# EAGLE library part LPY510AL (library mrone)
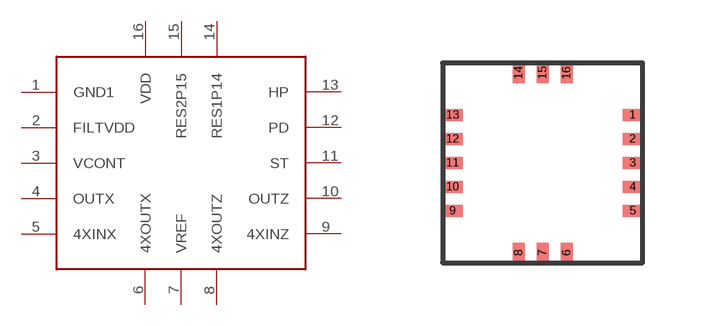
[diagram p9: symbol with the pads of LGA-16L; footprint LGA-16L]

Designator prefix -

## LPY510AL  [LGA-16L]
1  GND1
2  FILTVDD
3  VCONT
4  OUTX
5  4XINX
6  4XOUTX
7  VREF
8  4XOUTZ
9  4XINZ
10  OUTZ
11  ST
12  PD
13  HP
14  RES1P14
15  RES2P15
16  VDD

## Footprint LGA-16L (pad centres in mm)
smd 0.5 x 0.3: 1 2.25,1.2; 2 2.25,0.6; 3 2.25,0; 4 2.25,-0.6; 5 2.25,-1.2; 9 -2.25,-1.2; 10 -2.25,-0.6; 11 -2.25,0; 12 -2.25,0.6; 13 -2.25,1.2
smd 0.3 x 0.5: 6 0.6,-2.25; 7 0,-2.25; 8 -0.6,-2.25; 14 -0.6,2.25; 15 0,2.25; 16 0.6,2.25